# Altium schematic symbol library CRYSTAL.SchLib: 2 symbols
Pins are listed as number, name and electrical type; pins without a type are passive.

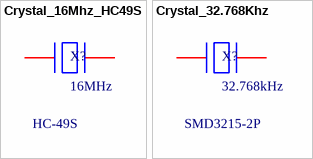
[diagram p0: symbols Crystal_16Mhz_HC49S to Crystal_32.768Khz]

## Crystal_16Mhz_HC49S
designator X?, comment 16MHz  Package: HC-49S
16MHz Through Hole Crystal Oscillator 20pF ±20ppm ±30ppm HC-49S Crystals ROHS; Manufacturer: YXC Crystal Oscillators; Mfr. Part: X49SD16MSD2SC; LCSC Part: C16212; Frequency: 16MHz; Type: Through Hole Crystal Oscillator; Load Capacitance: 20pF; Frequency Stability: ±30ppm; Operating Temperature: -20℃~+70℃; Link: https://www.lcsc.com/product-detail/C16212.html
footprint HC-49S
pins: 1, 2

## Crystal_32.768Khz
designator X?, comment 32.768kHz  Package: SMD3215-2P
32.768kHz 12.5pF ±20ppm SMD3215-2P Crystals ROHS; Manufacturer: NDK; Mfr. Part: NX3215SA-32.768K-STD-MUA-8; LCSC Part: C156245; Frequency: 32.768kHz; Type: -; Load Capacitance: 12.5pF; Frequency Stability: -; Operating Temperature: -40℃~+85℃; Link: https://www.lcsc.com/product-detail/C156245.html?s_z=n_Crystal%252032%252C768kHz
footprint SMD3215-2P
pins: 1, 2